# EAGLE library part SI8410 (library silicon-labs)
Si8410 1 Channel Digital Isolator Silicon Labs Si84xx ISOpro digital isolator series. The Si84xx ISOpro digital isolators provide low power galvanic isolation for digital signals at 1Mbps or 150Mbps. They operate on 2.7-5.5V supplies. Donald Becker
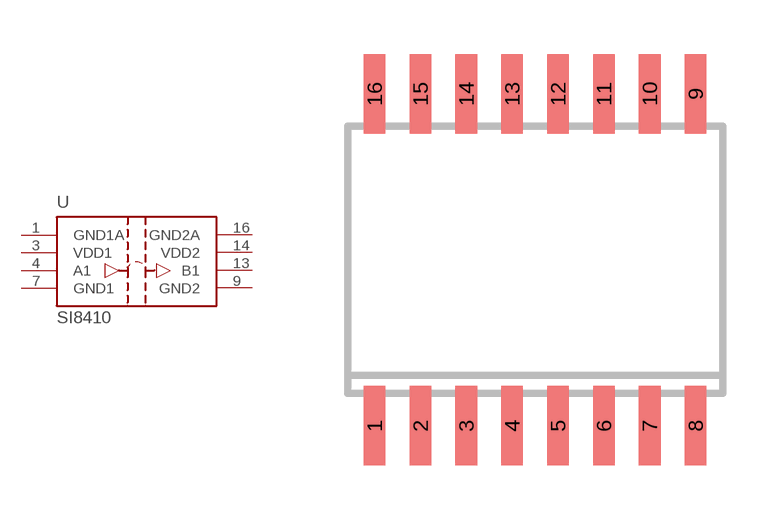
[diagram p1: symbol with the pads of SO16W; footprint SO16W]

Designator prefix -

## SI8410IS  [SO16W]
1  GND1A  sup
3  VDD1  pwr
4  A1  in
7  GND1  sup
9  GND2  sup
13  B1  out
14  VDD2  pwr
16  GND2A  sup

## Footprint SO16W (pad centres in mm)
SOIC16_W Small Outline Integrated Circuit 16 pin 0.300 wide SOIC16_W SMALL OUTLINE INTEGRATED CIRCUIT 16 pin Wide SOIC16-W Wide body (RW-16) 0.3", JEDEC MS-013-AA
smd 0.6 x 2.2: 1 -4.445,-4.6; 2 -3.175,-4.6; 3 -1.905,-4.6; 4 -0.635,-4.6; 5 0.635,-4.6; 6 1.905,-4.6; 7 3.175,-4.6; 8 4.445,-4.6; 9 4.445,4.6; 10 3.175,4.6; 11 1.905,4.6; 12 0.635,4.6; 13 -0.635,4.6; 14 -1.905,4.6; 15 -3.175,4.6; 16 -4.445,4.6